# Altium schematic symbol library RES 10.2k 1_8W.Schlib: 1 symbol
Pins are listed as number, name and electrical type; pins without a type are passive.

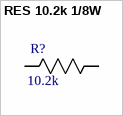
[diagram p0: symbol RES 10.2k 1/8W]

## RES 10.2k 1/8W
designator R?, comment 10.2k
RES SMD 10.2K OHM 1% 1/8W 0805
pins: 1 R1, 2 R2